# Altium footprint library XT-a0.PcbLib: 12 footprints
Each footprint in its own frame and in the unit in brackets; x right, y up, seen from the top. Pads: shape width x height; smd on the part's side, far side on the other; paste and mask are expansions set on the pad; w line width, h text height; cw(c..) or ccw(c..) is an arc to the next point about the centre after c.
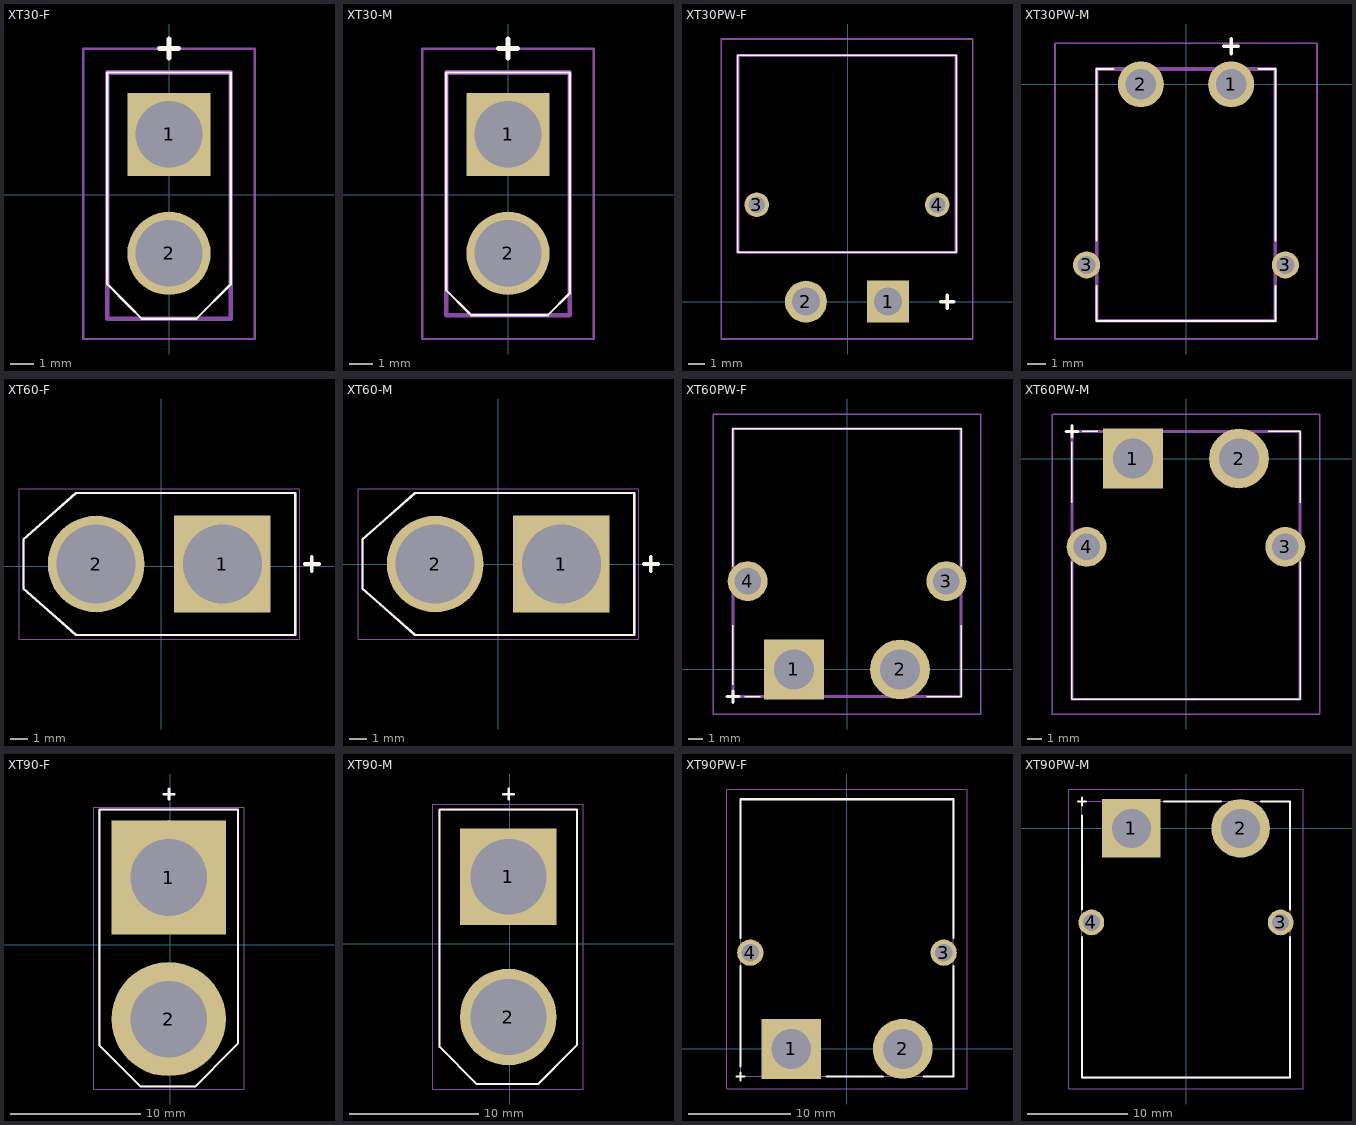
[diagram p0: the footprints below, top view; thin cyan lines are the x and y axes]

## XT30-F [mm]
pads (2):
  rect 3.5x3.5 hole 2.8: 1(0,2.54)
  round 3.5 hole 2.8: 2(0,-2.46)
Top Overlay:
  lines w0.1: -2.6,-3.496 -2.6,5.14 2.6,5.14 2.6,-3.75 1.143,-5.207 -1.143,-5.207 -1.661,-4.689 -2.597,-3.753 -2.6,-3.496
  lines w0.2: -0.4,6.15 0.4,6.15 ; 0,5.75 0,6.55
Mechanical 13:
  lines w0.2: -2.6,-5.207 2.6,-5.207 2.6,5.14 -2.6,5.14 -2.6,-5.207
Mechanical 15:
  lines w0.1: -3.6,-6.06 3.6,-6.06 3.6,6.14 -3.6,6.14 -3.6,-6.06
3D body "XT30-F.STEP": height 12.6, standoff -3, extent -2.625,-5.27 2.625,5.18

## XT30-M [mm]
pads (2):
  rect 3.5x3.5 hole 2.8: 1(0,2.54)
  round 3.5 hole 2.8: 2(0,-2.46)
Top Overlay:
  lines w0.1: -2.6,-3.496 -2.593,-4.011 -1.661,-4.943 -1.544,-5.06 1.671,-5.06 2.6,-4.131 2.6,5.14 -2.6,5.14 -2.6,-3.496
  lines w0.2: -0.4,6.15 0.4,6.15 ; 0,5.75 0,6.55
Mechanical 13:
  lines w0.2: -2.6,-5.06 -2.6,5.14 2.6,5.14 2.6,-5.06 -2.6,-5.06
Mechanical 15:
  lines w0.1: -3.6,-6.06 -3.6,6.14 3.6,6.14 3.6,-6.06 -3.6,-6.06
3D body "XT30PB.stp": height 10.75, standoff -1.95, extent -2.6,-5.06 2.6,5.14

## XT30PW-F [mm]
pads (4):
  rect 2.55x2.55 hole 1.7: 1(2.46,0)
  round 2.55 hole 1.7: 2(-2.54,0)
  round 1.5 hole 1: 3(-5.54,5.9) 4(5.46,5.9)
Top Overlay:
  lines w0.1: -6.69,3 -6.69,15 6.61,15 6.61,3 -6.69,3
  lines w0.2: 5.67,0 6.47,0 ; 6.07,-0.4 6.07,0.4
Mechanical 13:
  lines w0.2: -6.69,3 -6.69,15 6.61,15 6.61,3 -6.69,3
Mechanical 15:
  lines w0.1: -7.69,-2.275 -7.69,16 7.61,16 7.61,-2.275 -7.69,-2.275
3D body "XT30PW-F.stp": height 5, standoff -2, extent -6.45,-0.735 6.45,14.915

## XT30PW-M [mm]
pads (4):
  round 2.55 hole 1.7: 1(2.5,0) 2(-2.5,0)
  round 1.5 hole 1: 3(-5.5,-10) 3(5.5,-10)
Top Overlay:
  lines w0.1: -4.95,-11.149 -4.95,-13.099 4.95,-13.099 4.95,-11.149 ; -4.95,-8.649 -4.95,0.85 -4,0.85 ; 4,0.85 4.95,0.85 4.95,-8.649
  lines w0.2: 2.1,2.11 2.9,2.11 ; 2.5,1.71 2.5,2.51
Mechanical 13:
  lines w0.2: -4.95,-13.099 -4.95,0.85 4.95,0.85 4.95,-13.099 -4.95,-13.099
Mechanical 15:
  lines w0.1: -7.25,-14.1 -7.25,2.276 7.25,2.276 7.25,-14.1 -7.25,-14.1
3D body "XT30PW-M.stp": height 5.06, standoff -2.44, extent -6.65,-13.152 6.65,0.798

## XT60-F [mm]
pads (2):
  rect 5.516x5.516 hole 4.5: 1(3.473,0.127)
  round 5.516 hole 4.5: 2(-3.727,0.127)
Top Overlay:
  lines w0.127: -7.877,-1.273 -6.007,-2.923 -4.877,-3.923 7.623,-3.923 7.623,4.177 -4.877,4.177 -6.007,3.177 -7.877,1.527 -7.877,-1.273
  lines w0.2: 8.183,0.127 8.983,0.127 ; 8.583,-0.273 8.583,0.527
Mechanical 13:
  lines w0.127: -7.877,-1.273 -4.877,-3.923 7.623,-3.923 7.623,4.177 -4.877,4.177 -7.877,1.527 -7.877,-1.273
Mechanical 15:
  lines w0.05: -8.127,-4.173 7.873,-4.173 7.873,4.427 -8.127,4.427 -8.127,-4.173
3D body "XT60 Buchse.stp": height 16.8, standoff -5, extent -7.927,-3.873 7.673,4.127

## XT60-M [mm]
pads (2):
  rect 5.516x5.516 hole 4.5: 1(3.6,0)
  round 5.516 hole 4.5: 2(-3.6,0)
Top Overlay:
  lines w0.127: -6.73,-2.3 -7.75,-1.4 -7.75,1.4 -6.73,2.3 ; -6.729,-2.299 -4.75,-4.05 7.75,-4.05 7.75,4.05 -4.75,4.05 -6.729,2.299
  lines w0.2: 8.31,0 9.11,0 ; 8.71,-0.4 8.71,0.4
Mechanical 13:
  lines w0.127: -7.75,-1.4 -4.75,-4.05 7.75,-4.05 7.75,4.05 -4.75,4.05 -7.75,1.4 -7.75,-1.4
Mechanical 15:
  lines w0.05: -8,-4.3 8,-4.3 8,4.3 -8,4.3 -8,-4.3
3D body "XT60-M--3DModel-STEP-56544.STEP": height 16, standoff -4.5, extent -7.75,-4.05 7.75,4.05

## XT60PW-F [mm]
pads (4):
  rect 4.05x4.05 hole 2.7: 1(-3.6,0)
  round 4.05 hole 2.7: 2(3.6,0)
  round 2.7 hole 1.8: 3(6.75,6) 4(-6.75,6)
Top Overlay:
  lines w0.1: -7.75,-1.05 -7.75,3 ; -7.75,7 -7.75,16.35 7.75,16.35 7.75,7 ; -6.95,-1.85 -5.9,-1.85 ; 5.4,-1.85 7.75,-1.85 7.75,3
  lines w0.2: -8.15,-1.85 -7.35,-1.85 ; -7.75,-2.25 -7.75,-1.45
Mechanical 13:
  lines w0.2: -7.75,-1.85 -7.75,16.35 7.75,16.35 7.75,-1.85 -7.75,-1.85
Mechanical 15:
  lines w0.1: -9.1,-3.025 -9.1,17.35 9.1,17.35 9.1,-3.025 -9.1,-3.025
3D body "XT60PW-M.stp": height 8.53, standoff -2.42, extent -7.95,-1.9 7.95,15.4

## XT60PW-M [mm]
pads (4):
  rect 4.05x4.05 hole 2.7: 1(-3.6,0)
  round 4.05 hole 2.7: 2(3.6,0)
  round 2.7 hole 1.8: 3(6.75,-6) 4(-6.75,-6)
Top Overlay:
  lines w0.1: -7.75,-7 -7.75,-16.35 7.75,-16.35 7.75,-7 ; -7.75,-3 -7.75,1.15 ; -7.05,1.85 -6,1.85 ; 5.6,1.85 7.75,1.85 7.75,-3
  lines w0.2: -8.15,1.85 -7.35,1.85 ; -7.75,1.45 -7.75,2.25
Mechanical 13:
  lines w0.2: -7.75,-16.35 -7.75,1.85 7.75,1.85 7.75,-16.35 -7.75,-16.35
Mechanical 15:
  lines w0.1: -9.1,-17.35 -9.1,3.025 9.1,3.025 9.1,-17.35 -9.1,-17.35
3D body "XT60PW-M.STEP": height 8.4, standoff -2.2, extent -7.75,-16.35 7.75,1.85

## XT90-F [mm]
pads (2):
  rect 8.8x8.8 hole 5.9: 1(-0.127,5.185)
  round 8.8 hole 5.9: 2(-0.127,-5.715)
Top Overlay:
  circle w0.3: c-0.127,9.271 r0.15
  lines w0.15: -5.461,-7.742 -5.238,-7.965 -2.287,-10.922 1.907,-10.922 4.73,-8.093 5.207,-7.616 5.207,-3.212 5.207,10.414 -5.461,10.414 -5.461,-3.212 -5.461,-7.742
  lines w0.2: -0.5,11.6 0.3,11.6 ; -0.1,11.2 -0.1,12
Mechanical 13:
  lines w0.127: -5.5,-7.7 -5.5,10.4 5.2,10.4 5.2,-7.6 1.9,-10.9 -2.3,-10.9 -5.5,-7.7
Mechanical 15:
  lines w0.05: -5.9,-11.1 5.7,-11.1 5.7,10.6 -5.9,10.6 -5.9,-11.1
3D body "xt90_F.STEP": height 21.4, standoff -4.93, extent -5.597,-10.764 5.343,10.256

## XT90-M [mm]
pads (2):
  rect 7.5x7.5 hole 5.9: 1(-0.127,5.185)
  round 7.5 hole 5.9: 2(-0.127,-5.715)
Top Overlay:
  lines w0.15: -5.461,-8.033 -2.579,-10.922 2.18,-10.922 4.73,-8.366 5.207,-7.89 5.207,-3.212 5.207,10.414 -5.461,10.414 -5.461,-3.212 -5.461,-7.742 -5.461,-8.033
  lines w0.2: -0.5,11.6 0.3,11.6 ; -0.1,11.2 -0.1,12
Mechanical 13:
  lines w0.127: -5.5,-8 -2.6,-10.9 2.2,-10.9 5.2,-7.9 5.2,10.4 -5.5,10.4 -5.5,-8
Mechanical 15:
  lines w0.05: -6,-11.3 -6,10.8 5.7,10.8 5.7,-11.3 -6,-11.3
3D body "xt90_M.STEP": height 20.8, standoff -5.4, extent -5.627,-10.954 5.373,10.446

## XT90PW-F [mm]
pads (4):
  rect 5.85x5.85 hole 3.9: 1(-5.439,0)
  round 5.85 hole 3.9: 2(5.461,0)
  round 2.565 hole 1.71: 3(9.461,9.4) 4(-9.439,9.4)
Top Overlay:
  lines w0.2: -10.789,-2.7 -9.989,-2.7 ; -10.389,-3.1 -10.389,-2.3 ; -2,-2.7 3.511,-2.7 ; -10.389,24.4 10.411,24.4 ; -10.389,24.4 10.411,24.4 ; -10.389,24.4 -10.389,10.85 -10.389,24.4 ; 10.411,-2.7 7.511,-2.7 10.411,-2.7 ; 10.411,-2.7 10.411,8.1 10.411,-2.7 ; 10.411,24.4 10.411,10.85 10.411,24.4 ; -10.4,-1.7 -10.389,8.1 -10.4,-1.7
Mechanical 13:
  lines w0.1: -10.389,-2.7 -10.389,24.4 10.411,24.4 10.411,-2.7 -10.389,-2.7
Mechanical 15:
  lines w0.1: -11.722,-3.925 11.744,-3.925 11.744,25.4 -11.722,25.4 -11.722,-3.925
3D body "XT90PW-F.STEP": height 10.1, standoff -2.7, extent -10.35,-2.805 10.35,24.395

## XT90PW-M [mm]
pads (4):
  rect 5.85x5.85 hole 3.9: 1(-5.461,0)
  round 5.85 hole 3.9: 2(5.439,0)
  round 2.565 hole 1.71: 3(9.439,-9.4) 4(-9.461,-9.4)
Top Overlay:
  lines w0.2: -10.811,2.7 -10.011,2.7 ; -10.411,-24.4 -10.411,-10.85 -10.411,-24.892 10.389,-24.892 10.389,-10.85 10.389,-24.4 ; -10.411,2.3 -10.411,3.1 ; 10.389,2.7 10.389,-8.1 10.389,2.7 ; 10.389,2.7 7.489,2.7 10.389,2.7 ; -10.411,-8.1 -10.4,1.3 -10.411,-8.1 ; -2.2,2.7 3.489,2.7 -2.2,2.7
Mechanical 13:
  lines w0.1: -10.411,-24.892 10.389,-24.892 10.389,2.7 -10.411,2.7 -10.411,-24.892
Mechanical 15:
  lines w0.1: -11.744,-26.035 11.722,-26.035 11.722,3.925 -11.744,3.925 -11.744,-26.035
3D body "XT90PW-M.STEP": height 10.1, standoff -2.7, extent -10.35,-24.776 10.35,2.424